# Altium footprint library Movandi.PcbLib: 2 footprints
Each footprint in its own frame and in the unit in brackets; x right, y up, seen from the top. Pads: shape width x height; smd on the part's side, far side on the other; paste and mask are expansions set on the pad; w line width, h text height; cw(c..) or ccw(c..) is an arc to the next point about the centre after c.
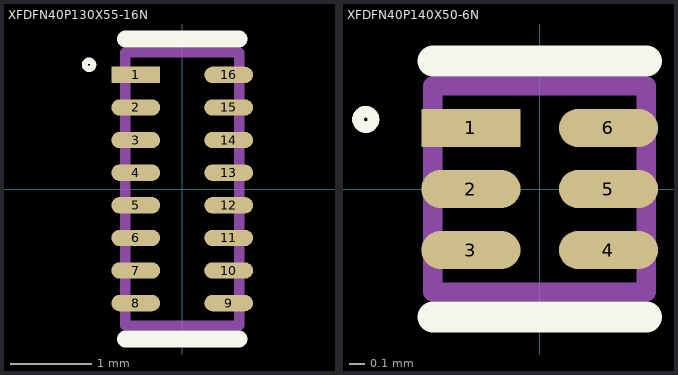
[diagram p0: the footprints below, top view; thin cyan lines are the x and y axes]

## XFDFN40P130X55-16N [mm] "SON, 16-Leads, Body 3.30x1.35mm, Pitch 0.40mm, IPC Medium Density"
height 0.55
pads (16):
  rect 0.6x0.2 smd: 1(-0.57,1.4)
  oval 0.6x0.2 smd: 2(-0.57,1) 3(-0.57,0.6) 4(-0.57,0.2) 5(-0.57,-0.2) 6(-0.57,-0.6) 7(-0.57,-1) 8(-0.57,-1.4) 9(0.57,-1.4) 10(0.57,-1) 11(0.57,-0.6) 12(0.57,-0.2) 13(0.57,0.2) 14(0.57,0.6) 15(0.57,1) 16(0.57,1.4)
Top Overlay:
  circle w0.076: c-1.143,1.524 r0.051
  lines w0.203: -0.7,-1.84 0.7,-1.84 ; -0.7,1.84 0.7,1.84
Mechanical 1:
  text "'.Designator'" at 0,0 h1.52
Mechanical 15:
  circle w0.076: c-0.381,1.397 r0.051
  lines w0.127: -0.7,-1.675 0.7,-1.675 0.7,1.675 -0.7,1.675 -0.7,-1.675
3D body "SON40P130X55-16N.step": height 0.55, standoff 0, extent -0.701,-1.675 0.701,1.675

## XFDFN40P140X50-6N [mm] "SON, 6-Leads, Body 1.35x1.40mm, Pitch 0.40mm, IPC Medium Density"
height 0.5
pads (6):
  rect 0.65x0.25 smd: 1(-0.451,0.4)
  oval 0.65x0.25 smd: 2(-0.451,0) 3(-0.451,-0.4) 4(0.451,-0.4) 5(0.451,0) 6(0.451,0.4)
Top Overlay:
  circle w0.076: c-1.14,0.456 r0.051
  lines w0.203: -0.7,-0.84 0.7,-0.84 ; -0.7,0.84 0.7,0.84
Mechanical 1:
  text "'.Designator'" at 0,0 h1.52
Mechanical 15:
  circle w0.076: c-0.251,0.4 r0.051
  lines w0.127: -0.7,-0.675 0.7,-0.675 0.7,0.675 -0.7,0.675 -0.7,-0.675
3D body "SON40P140X50-6N.step": height 0.5, standoff 0, extent -0.701,-0.675 0.701,0.675